# EAGLE library part STM32-C-64 (library pel_stm32)
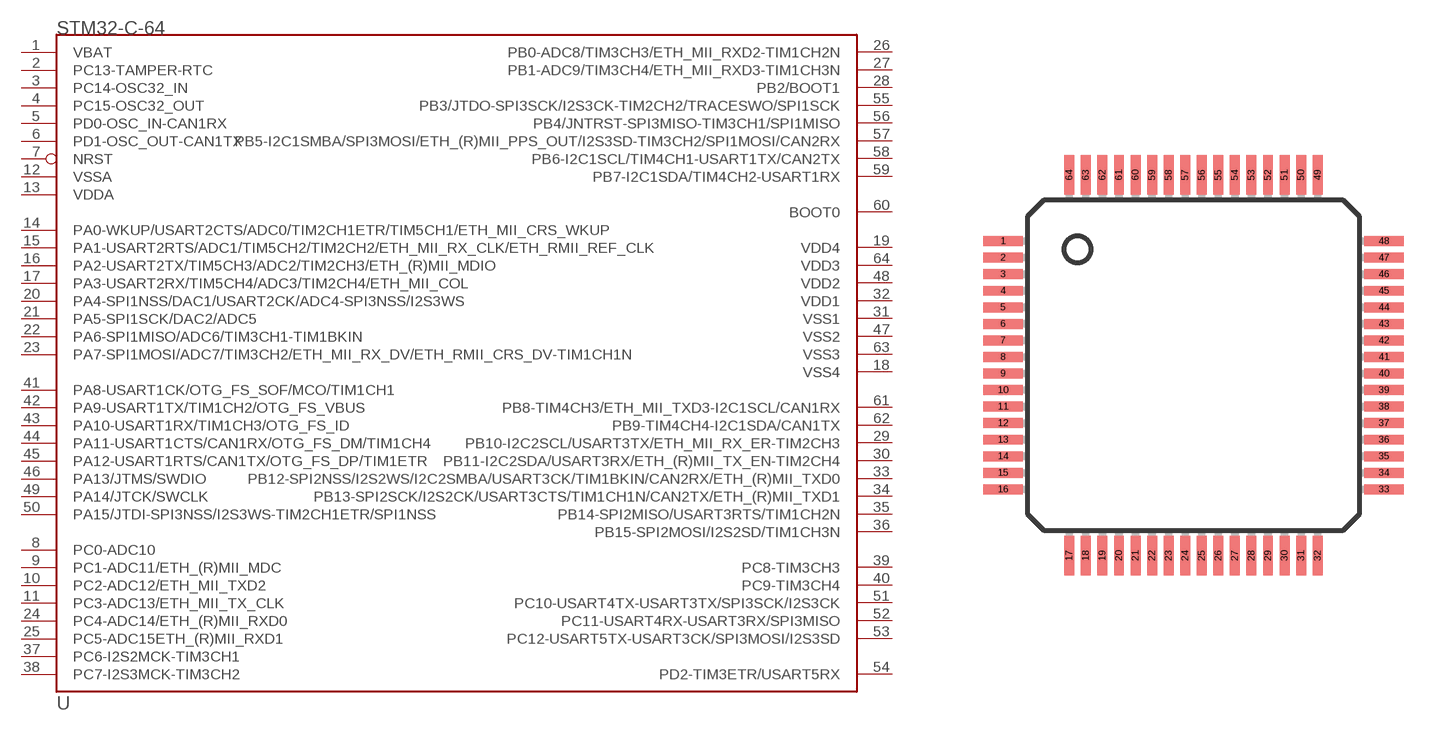
[diagram p5: symbol with the pads of LQFP64; footprint LQFP64]

Designator prefix U

## STM32-C-64  [LQFP64]
1  VBAT  sup
2  PC13-TAMPER-RTC
3  PC14-OSC32_IN
4  PC15-OSC32_OUT
5  PD0-OSC_IN-CAN1RX  in
6  PD1-OSC_OUT-CAN1TX  out
7  NRST
8  PC0-ADC10
9  PC1-ADC11/ETH_(R)MII_MDC
10  PC2-ADC12/ETH_MII_TXD2
11  PC3-ADC13/ETH_MII_TX_CLK
12  VSSA  sup
13  VDDA  sup
14  PA0-WKUP/USART2CTS/ADC0/TIM2CH1ETR/TIM5CH1/ETH_MII_CRS_WKUP
15  PA1-USART2RTS/ADC1/TIM5CH2/TIM2CH2/ETH_MII_RX_CLK/ETH_RMII_REF_CLK
16  PA2-USART2TX/TIM5CH3/ADC2/TIM2CH3/ETH_(R)MII_MDIO
17  PA3-USART2RX/TIM5CH4/ADC3/TIM2CH4/ETH_MII_COL
18  VSS4
19  VDD4
20  PA4-SPI1NSS/DAC1/USART2CK/ADC4-SPI3NSS/I2S3WS
21  PA5-SPI1SCK/DAC2/ADC5
22  PA6-SPI1MISO/ADC6/TIM3CH1-TIM1BKIN
23  PA7-SPI1MOSI/ADC7/TIM3CH2/ETH_MII_RX_DV/ETH_RMII_CRS_DV-TIM1CH1N
24  PC4-ADC14/ETH_(R)MII_RXD0
25  PC5-ADC15ETH_(R)MII_RXD1
26  PB0-ADC8/TIM3CH3/ETH_MII_RXD2-TIM1CH2N
27  PB1-ADC9/TIM3CH4/ETH_MII_RXD3-TIM1CH3N
28  PB2/BOOT1
29  PB10-I2C2SCL/USART3TX/ETH_MII_RX_ER-TIM2CH3
30  PB11-I2C2SDA/USART3RX/ETH_(R)MII_TX_EN-TIM2CH4
31  VSS1  sup
32  VDD1  sup
33  PB12-SPI2NSS/I2S2WS/I2C2SMBA/USART3CK/TIM1BKIN/CAN2RX/ETH_(R)MII_TXD0
34  PB13-SPI2SCK/I2S2CK/USART3CTS/TIM1CH1N/CAN2TX/ETH_(R)MII_TXD1
35  PB14-SPI2MISO/USART3RTS/TIM1CH2N
36  PB15-SPI2MOSI/I2S2SD/TIM1CH3N
37  PC6-I2S2MCK-TIM3CH1
38  PC7-I2S3MCK-TIM3CH2
39  PC8-TIM3CH3
40  PC9-TIM3CH4
41  PA8-USART1CK/OTG_FS_SOF/MCO/TIM1CH1
42  PA9-USART1TX/TIM1CH2/OTG_FS_VBUS
43  PA10-USART1RX/TIM1CH3/OTG_FS_ID
44  PA11-USART1CTS/CAN1RX/OTG_FS_DM/TIM1CH4
45  PA12-USART1RTS/CAN1TX/OTG_FS_DP/TIM1ETR
46  PA13/JTMS/SWDIO
47  VSS2  sup
48  VDD2  sup
49  PA14/JTCK/SWCLK
50  PA15/JTDI-SPI3NSS/I2S3WS-TIM2CH1ETR/SPI1NSS
51  PC10-USART4TX-USART3TX/SPI3SCK/I2S3CK
52  PC11-USART4RX-USART3RX/SPI3MISO
53  PC12-USART5TX-USART3CK/SPI3MOSI/I2S3SD
54  PD2-TIM3ETR/USART5RX
55  PB3/JTDO-SPI3SCK/I2S3CK-TIM2CH2/TRACESWO/SPI1SCK
56  PB4/JNTRST-SPI3MISO-TIM3CH1/SPI1MISO
57  PB5-I2C1SMBA/SPI3MOSI/ETH_(R)MII_PPS_OUT/I2S3SD-TIM3CH2/SPI1MOSI/CAN2RX
58  PB6-I2C1SCL/TIM4CH1-USART1TX/CAN2TX
59  PB7-I2C1SDA/TIM4CH2-USART1RX
60  BOOT0  in
61  PB8-TIM4CH3/ETH_MII_TXD3-I2C1SCL/CAN1RX
62  PB9-TIM4CH4-I2C1SDA/CAN1TX
63  VSS3  sup
64  VDD3  sup

## Footprint LQFP64 (pad centres in mm)
Based on STM PCB landpattern recomendation
smd 1.2 x 0.3: 1 -5.75,3.75; 2 -5.75,3.25; 3 -5.75,2.75; 4 -5.75,2.25; 5 -5.75,1.75; 6 -5.75,1.25; 7 -5.75,0.75; 8 -5.75,0.25; 9 -5.75,-0.25; 10 -5.75,-0.75; 11 -5.75,-1.25; 12 -5.75,-1.75; 13 -5.75,-2.25; 14 -5.75,-2.75; 15 -5.75,-3.25; 16 -5.75,-3.75; 33 5.75,-3.75; 34 5.75,-3.25; 35 5.75,-2.75; 36 5.75,-2.25; 37 5.75,-1.75; 38 5.75,-1.25; 39 5.75,-0.75; 40 5.75,-0.25; 41 5.75,0.25; 42 5.75,0.75; 43 5.75,1.25; 44 5.75,1.75; 45 5.75,2.25; 46 5.75,2.75; 47 5.75,3.25; 48 5.75,3.75
smd 0.3 x 1.2: 17 -3.75,-5.75; 18 -3.25,-5.75; 19 -2.75,-5.75; 20 -2.25,-5.75; 21 -1.75,-5.75; 22 -1.25,-5.75; 23 -0.75,-5.75; 24 -0.25,-5.75; 25 0.25,-5.75; 26 0.75,-5.75; 27 1.25,-5.75; 28 1.75,-5.75; 29 2.25,-5.75; 30 2.75,-5.75; 31 3.25,-5.75; 32 3.75,-5.75; 49 3.75,5.75; 50 3.25,5.75; 51 2.75,5.75; 52 2.25,5.75; 53 1.75,5.75; 54 1.25,5.75; 55 0.75,5.75; 56 0.25,5.75; 57 -0.25,5.75; 58 -0.75,5.75; 59 -1.25,5.75; 60 -1.75,5.75; 61 -2.25,5.75; 62 -2.75,5.75; 63 -3.25,5.75; 64 -3.75,5.75